# Altium footprint library STGW30NC60KD.PcbLib: 1 footprints
Each footprint in its own frame and in the unit in brackets; x right, y up, seen from the top. Pads: shape width x height; smd on the part's side, far side on the other; paste and mask are expansions set on the pad; w line width, h text height; cw(c..) or ccw(c..) is an arc to the next point about the centre after c.
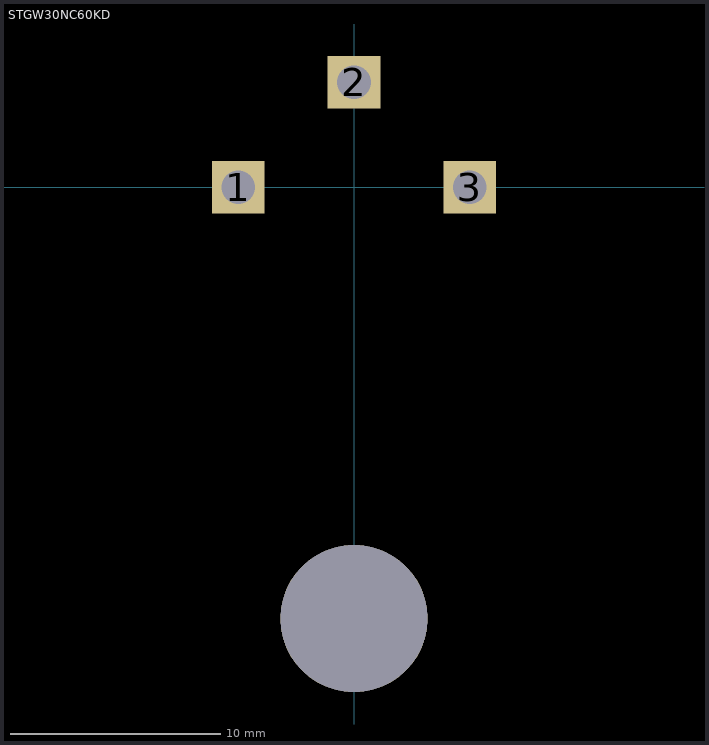
[diagram p0: the footprint, top view; thin cyan lines are the x and y axes]

## STGW30NC60KD [mm]
pads (4):
  rect 2.5x2.5 hole 1.6: 1(-5.5,0) 2(0,5) 3(5.5,0)
  round 7 hole 7 unplated: ""(0,-20.5)
3D body: height 4, standoff 0, extent -8,-24.5 8,-4.5
3D body: height 9.5, standoff 0.3, extent 5.75,-4 5.75,-4